# EAGLE library part LM1881 (library oldchips2)
Video sync separator
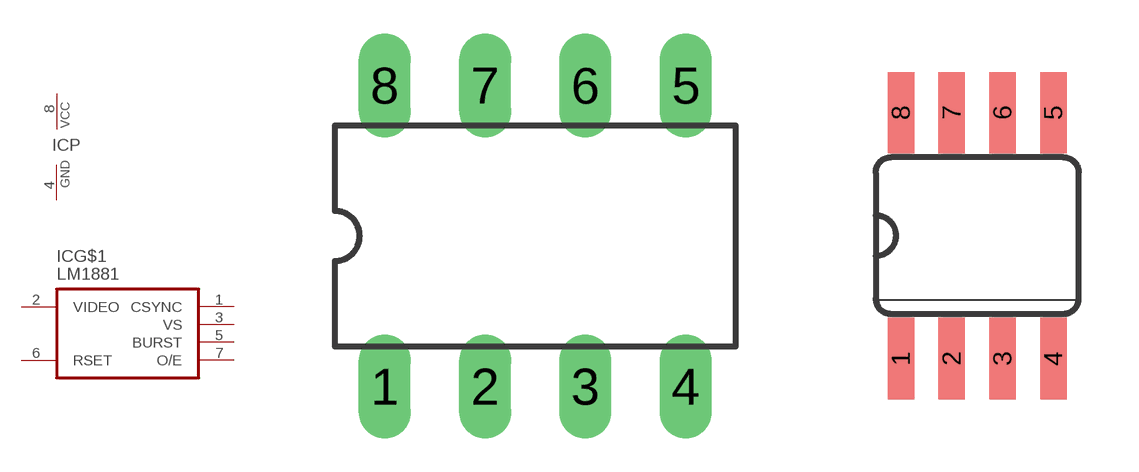
[diagram p1: symbol with the pads of DIL08; footprints DIL08, SO08]

Designator prefix IC; gates G$1=LM1881 P=PWRN

## LM1881N  [DIL08]
1  G$1:CSYNC  out
2  G$1:VIDEO  in
3  G$1:VS  out
4  P:GND  pwr
5  G$1:BURST  out
6  G$1:RSET  pas
7  G$1:O/E  out
8  P:VCC  pwr

## LM1881M  [SO08]
Pads as for DIL08

## Footprint DIL08 (pad centres in mm)
Dual In Line
drill 0.813 long: 1 -3.81,-3.81; 2 -1.27,-3.81; 3 1.27,-3.81; 4 3.81,-3.81; 5 3.81,3.81; 6 1.27,3.81; 7 -1.27,3.81; 8 -3.81,3.81

## Footprint SO08 (pad centres in mm)
Small Outline package 150 mil
smd 0.66 x 2.032: 1 -1.905,-3.073; 2 -0.635,-3.073; 3 0.635,-3.073; 4 1.905,-3.073; 5 1.905,3.073; 6 0.635,3.073; 7 -0.635,3.073; 8 -1.905,3.073